# Altium footprint library PcbLib_pic32.PcbLib: 4 footprints
Each footprint in its own frame and in the unit in brackets; x right, y up, seen from the top. Pads: shape width x height; smd on the part's side, far side on the other; paste and mask are expansions set on the pad; w line width, h text height; cw(c..) or ccw(c..) is an arc to the next point about the centre after c.
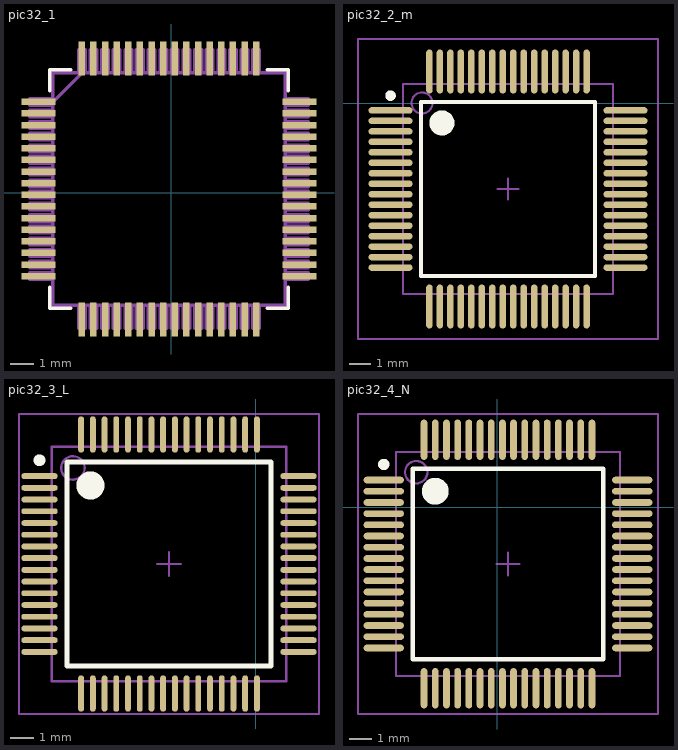
[diagram p0: the footprints below, top view; thin cyan lines are the x and y axes]

## pic32_1 [mil] "variante 1 du footprint du pic32"
pads (64):
  rect 58x11 smd paste-1000 mask-1000: 1(-224.43,154.02) 2(-224.43,134.33) 3(-224.43,114.65) 4(-224.43,94.96) 5(-224.43,75.28) 6(-224.43,55.59) 7(-224.43,35.91) 8(-224.43,16.22) 9(-224.43,-3.46) 10(-224.43,-23.15) 11(-224.43,-42.84) 12(-224.43,-62.52) 13(-224.43,-82.21) 14(-224.43,-101.89) 15(-224.43,-121.58) 16(-224.43,-141.26) 33(217.57,-141.26) 34(217.57,-121.58) 35(217.57,-101.89) 36(217.57,-82.21) 37(217.57,-62.52) 38(217.57,-42.84) 39(217.57,-23.15) 40(217.57,-3.46) 41(217.57,16.22) 42(217.57,35.91) 43(217.57,55.59) 44(217.57,75.28) 45(217.57,94.96) 46(217.57,114.65) 47(217.57,134.33) 48(217.57,154.02)
  rect 11x58 smd paste-1000 mask-1000: 17(-151.06,-214.62) 18(-131.38,-214.62) 19(-111.69,-214.62) 20(-92.01,-214.62) 21(-72.32,-214.62) 22(-52.64,-214.62) 23(-32.95,-214.62) 24(-13.27,-214.62) 25(6.42,-214.62) 26(26.1,-214.62) 27(45.79,-214.62) 28(65.47,-214.62) 29(85.16,-214.62) 30(104.84,-214.62) 31(124.53,-214.62) 32(144.21,-214.62) 49(144.21,227.38) 50(124.53,227.38) 51(104.84,227.38) 52(85.16,227.38) 53(65.47,227.38) 54(45.79,227.38) 55(26.1,227.38) 56(6.42,227.38) 57(-13.27,227.38) 58(-32.95,227.38) 59(-52.64,227.38) 60(-72.32,227.38) 61(-92.01,227.38) 62(-111.69,227.38) 63(-131.38,227.38) 64(-151.06,227.38)
Top Overlay:
  lines w6: -205.43,-159.62 -205.43,-195.62 -169.43,-195.62 ; -205.43,172.38 -205.43,208.38 -169.43,208.38 ; 162.57,-195.62 198.57,-195.62 198.57,-159.62 ; 162.57,208.38 198.57,208.38 198.57,172.38
Top Paste:
  drawing of 64 lines, arcs and shapes, not listed
Top Solder:
  drawing of 64 lines, arcs and shapes, not listed
Mechanical 1:
  drawing of 327 lines, arcs and shapes, not listed

## pic32_2_m [mm] "variante 2_M du footprint du pic32"
pads (64):
  oval 2.1x0.3 smd: 1(17.946,-0.333) 2(17.946,-0.833) 3(17.946,-1.333) 4(17.946,-1.833) 5(17.946,-2.333) 6(17.946,-2.833) 7(17.946,-3.333) 8(17.946,-3.833) 9(17.946,-4.333) 10(17.946,-4.833) 11(17.946,-5.333) 12(17.946,-5.833) 13(17.946,-6.333) 14(17.946,-6.833) 15(17.946,-7.333) 16(17.946,-7.833) 33(29.146,-7.833) 34(29.146,-7.333) 35(29.146,-6.833) 36(29.146,-6.333) 37(29.146,-5.833) 38(29.146,-5.333) 39(29.146,-4.833) 40(29.146,-4.333) 41(29.146,-3.833) 42(29.146,-3.333) 43(29.146,-2.833) 44(29.146,-2.333) 45(29.146,-1.833) 46(29.146,-1.333) 47(29.146,-0.833) 48(29.146,-0.333)
  oval 0.3x2.1 smd: 17(19.796,-9.683) 18(20.296,-9.683) 19(20.796,-9.683) 20(21.296,-9.683) 21(21.796,-9.683) 22(22.296,-9.683) 23(22.796,-9.683) 24(23.296,-9.683) 25(23.796,-9.683) 26(24.296,-9.683) 27(24.796,-9.683) 28(25.296,-9.683) 29(25.796,-9.683) 30(26.296,-9.683) 31(26.796,-9.683) 32(27.296,-9.683) 49(27.296,1.517) 50(26.796,1.517) 51(26.296,1.517) 52(25.796,1.517) 53(25.296,1.517) 54(24.796,1.517) 55(24.296,1.517) 56(23.796,1.517) 57(23.296,1.517) 58(22.796,1.517) 59(22.296,1.517) 60(21.796,1.517) 61(21.296,1.517) 62(20.796,1.517) 63(20.296,1.517) 64(19.796,1.517)
Top Overlay:
  circle w0.25: c17.946,0.367 r0.125
  circle w0.6: c20.396,-0.933 r0.3
  lines w0.2: 19.396,-8.233 19.396,0.067 27.696,0.067 27.696,-8.233 19.396,-8.233
Mechanical 13:
  circle w0.1: c19.446,0.017 r0.5
  lines w0.1: 18.546,-9.083 18.546,0.917 28.546,0.917 28.546,-9.083 18.546,-9.083
Mechanical 15:
  lines w0.1: 23.046,-4.083 24.046,-4.083 ; 23.546,-4.583 23.546,-3.583 ; 16.396,-11.233 16.396,3.067 30.696,3.067 30.696,-11.233 16.396,-11.233
3D body: height 1.2, standoff 0, extent 18.546,-9.083 28.546,0.917

## pic32_3_L [mm] "variante 3_L du footprint du pic32"
pads (64):
  oval 1.55x0.25 smd: 1(-9.229,-5.706) 2(-9.229,-6.206) 3(-9.229,-6.706) 4(-9.229,-7.206) 5(-9.229,-7.706) 6(-9.229,-8.206) 7(-9.229,-8.706) 8(-9.229,-9.206) 9(-9.229,-9.706) 10(-9.229,-10.206) 11(-9.229,-10.706) 12(-9.229,-11.206) 13(-9.229,-11.706) 14(-9.229,-12.206) 15(-9.229,-12.706) 16(-9.229,-13.206) 33(1.821,-13.206) 34(1.821,-12.706) 35(1.821,-12.206) 36(1.821,-11.706) 37(1.821,-11.206) 38(1.821,-10.706) 39(1.821,-10.206) 40(1.821,-9.706) 41(1.821,-9.206) 42(1.821,-8.706) 43(1.821,-8.206) 44(1.821,-7.706) 45(1.821,-7.206) 46(1.821,-6.706) 47(1.821,-6.206) 48(1.821,-5.706)
  oval 0.25x1.55 smd: 17(-7.454,-14.981) 18(-6.954,-14.981) 19(-6.454,-14.981) 20(-5.954,-14.981) 21(-5.454,-14.981) 22(-4.954,-14.981) 23(-4.454,-14.981) 24(-3.954,-14.981) 25(-3.454,-14.981) 26(-2.954,-14.981) 27(-2.454,-14.981) 28(-1.954,-14.981) 29(-1.454,-14.981) 30(-0.954,-14.981) 31(-0.454,-14.981) 32(0.046,-14.981) 49(0.046,-3.931) 50(-0.454,-3.931) 51(-0.954,-3.931) 52(-1.454,-3.931) 53(-1.954,-3.931) 54(-2.454,-3.931) 55(-2.954,-3.931) 56(-3.454,-3.931) 57(-3.954,-3.931) 58(-4.454,-3.931) 59(-4.954,-3.931) 60(-5.454,-3.931) 61(-5.954,-3.931) 62(-6.454,-3.931) 63(-6.954,-3.931) 64(-7.454,-3.931)
Top Overlay:
  circle w0.25: c-9.229,-5.031 r0.125
  circle w0.6: c-7.054,-6.106 r0.3
  lines w0.2: -8.054,-13.806 -8.054,-5.106 0.646,-5.106 0.646,-13.806 -8.054,-13.806
Mechanical 13:
  circle w0.1: c-7.804,-5.356 r0.5
  lines w0.1: -8.704,-14.456 -8.704,-4.456 1.296,-4.456 1.296,-14.456 -8.704,-14.456
Mechanical 15:
  lines w0.1: -4.204,-9.456 -3.204,-9.456 ; -3.704,-9.956 -3.704,-8.956 ; -10.104,-15.856 -10.104,-3.056 2.696,-3.056 2.696,-15.856 -10.104,-15.856
3D body: height 1.2, standoff 0, extent -8.704,-14.456 1.296,-4.456

## pic32_4_N [mm] "variante 4_N du footprint du pic32"
pads (64):
  oval 1.8x0.3 smd: 1(-5.079,1.21) 2(-5.079,0.71) 3(-5.079,0.21) 4(-5.079,-0.29) 5(-5.079,-0.79) 6(-5.079,-1.29) 7(-5.079,-1.79) 8(-5.079,-2.29) 9(-5.079,-2.79) 10(-5.079,-3.29) 11(-5.079,-3.79) 12(-5.079,-4.29) 13(-5.079,-4.79) 14(-5.079,-5.29) 15(-5.079,-5.79) 16(-5.079,-6.29) 33(6.021,-6.29) 34(6.021,-5.79) 35(6.021,-5.29) 36(6.021,-4.79) 37(6.021,-4.29) 38(6.021,-3.79) 39(6.021,-3.29) 40(6.021,-2.79) 41(6.021,-2.29) 42(6.021,-1.79) 43(6.021,-1.29) 44(6.021,-0.79) 45(6.021,-0.29) 46(6.021,0.21) 47(6.021,0.71) 48(6.021,1.21)
  oval 0.3x1.8 smd: 17(-3.279,-8.09) 18(-2.779,-8.09) 19(-2.279,-8.09) 20(-1.779,-8.09) 21(-1.279,-8.09) 22(-0.779,-8.09) 23(-0.279,-8.09) 24(0.221,-8.09) 25(0.721,-8.09) 26(1.221,-8.09) 27(1.721,-8.09) 28(2.221,-8.09) 29(2.721,-8.09) 30(3.221,-8.09) 31(3.721,-8.09) 32(4.221,-8.09) 49(4.221,3.01) 50(3.721,3.01) 51(3.221,3.01) 52(2.721,3.01) 53(2.221,3.01) 54(1.721,3.01) 55(1.221,3.01) 56(0.721,3.01) 57(0.221,3.01) 58(-0.279,3.01) 59(-0.779,3.01) 60(-1.279,3.01) 61(-1.779,3.01) 62(-2.279,3.01) 63(-2.779,3.01) 64(-3.279,3.01)
Top Overlay:
  circle w0.6: c-2.779,0.71 r0.3
  circle w0.25: c-5.079,1.91 r0.125
  lines w0.2: -3.779,-6.79 4.721,-6.79 4.721,1.71 -3.779,1.71 -3.779,-6.79
Mechanical 13:
  circle w0.1: c-3.629,1.56 r0.5
  lines w0.1: -4.529,-7.54 5.471,-7.54 5.471,2.46 -4.529,2.46 -4.529,-7.54
Mechanical 15:
  lines w0.1: -0.029,-2.54 0.971,-2.54 ; 0.471,-3.04 0.471,-2.04 ; -6.229,-9.24 7.171,-9.24 7.171,4.16 -6.229,4.16 -6.229,-9.24
3D body: height 1.2, standoff 0, extent -4.529,-7.54 5.471,2.46